# Altium schematic symbol library UNO.SchLib: 1 symbol
Pins are listed as number, name and electrical type; pins without a type are passive.

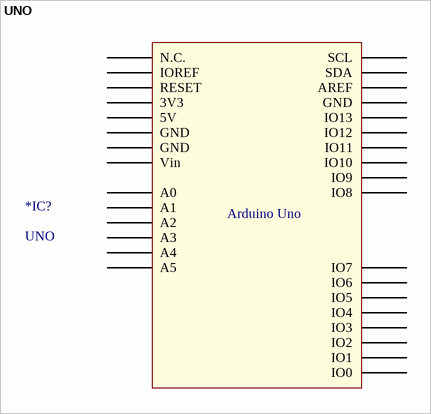
[diagram p0: symbol UNO]

## UNO
designator *IC?
pins: 0 IO0, 1 IO1, 2 IO2, 3 IO3, 3V3, 4 IO4, 5 IO5, 5V, 6 IO6, 7 IO7, 8 IO8, 9 IO9, 10 IO10, 11 IO11, 12 IO12, 13 IO13, A0, A1, A2, A3, A4, A5, AREF, GND1 GND, GND2 GND, GND3 GND, IOREF, NC N.C., RESET, SCL, SDA, Vin
text: Arduino Uno